# Altium schematic symbol library Schlib1.SchLib: 3 symbols
Pins are listed as number, name and electrical type; pins without a type are passive.

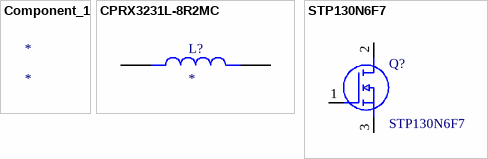
[diagram p0: symbols Component_1 to STP130N6F7]

## Component_1
designator *

## CPRX3231L-8R2MC
designator L?
Value: 8.2uH; MP: CPEX3231A-330MC; Package: None; Price: None; Availability: Unavailable
footprint CPRX3231L-8R2MC
pins: 1, 2

## STP130N6F7
designator Q?
N-channel 60 V, 4.2 m typ., 80 A STripFET F7 Power MOSFET in a TO-220 package; Manufacturer_Name: STMicroelectronics; Geometry.Height: 4.6mm; Mouser Part Number: 511-STP130N6F7; Mouser Price/Stock: https://www.mouser.co.uk/ProductDetail/STMicroelectronics/STP130N6F7?qs=bKenfurwlsnAlTA32qCHLw%3D%3D; Manufacturer_Part_Number: STP130N6F7; Datasheet Link: https://www.st.com/resource/en/datasheet/stp130n6f7.pdf
footprint TO255P460X1020X2008-3P
pins: 1 G, 2 D, 3 S